# Altium footprint library FQFP (0.4mm Pitch, Square) - Corner Index.PcbLib: 26 footprints (part 3 of 3)
Each footprint in its own frame and in the unit in brackets; x right, y up, seen from the top. Pads: shape width x height; smd on the part's side, far side on the other; paste and mask are expansions set on the pad; w line width, h text height; cw(c..) or ccw(c..) is an arc to the next point about the centre after c.
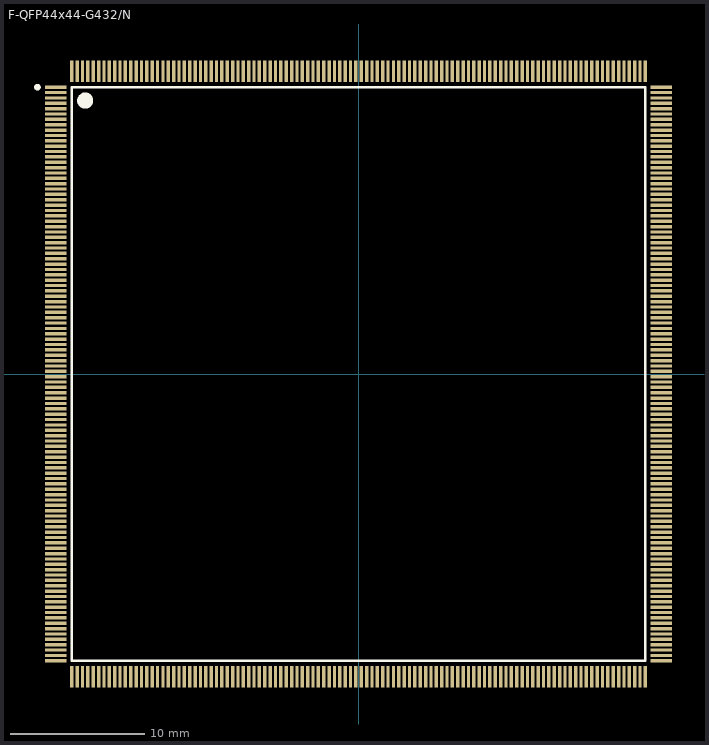
[diagram p2: the footprint, top view; thin cyan lines are the x and y axes]

## F-QFP44x44-G432/N [mm] "QFP; 432 Leads; Body 44 x 44 mm; Pitch 0.4 mm"
height 4.2
pads (432):
  rect 1.6x0.25 smd: 1(-22.6,21.4) 2(-22.6,21) 3(-22.6,20.6) 4(-22.6,20.2) 5(-22.6,19.8) 6(-22.6,19.4) 7(-22.6,19) 8(-22.6,18.6) 9(-22.6,18.2) 10(-22.6,17.8) 11(-22.6,17.4) 12(-22.6,17) 13(-22.6,16.6) 14(-22.6,16.2) 15(-22.6,15.8) 16(-22.6,15.4) 17(-22.6,15) 18(-22.6,14.6) 19(-22.6,14.2) 20(-22.6,13.8) 21(-22.6,13.4) 22(-22.6,13) 23(-22.6,12.6) 24(-22.6,12.2) 25(-22.6,11.8) 26(-22.6,11.4) 27(-22.6,11) 28(-22.6,10.6) 29(-22.6,10.2) 30(-22.6,9.8) 31(-22.6,9.4) 32(-22.6,9) 33(-22.6,8.6) 34(-22.6,8.2) 35(-22.6,7.8) 36(-22.6,7.4) 37(-22.6,7) 38(-22.6,6.6) 39(-22.6,6.2) 40(-22.6,5.8) 41(-22.6,5.4) 42(-22.6,5) 43(-22.6,4.6) 44(-22.6,4.2) 45(-22.6,3.8) 46(-22.6,3.4) 47(-22.6,3) 48(-22.6,2.6) 49(-22.6,2.2) 50(-22.6,1.8) 51(-22.6,1.4) 52(-22.6,1) 53(-22.6,0.6) 54(-22.6,0.2) 55(-22.6,-0.2) 56(-22.6,-0.6) 57(-22.6,-1) 58(-22.6,-1.4) 59(-22.6,-1.8) 60(-22.6,-2.2) 61(-22.6,-2.6) 62(-22.6,-3) 63(-22.6,-3.4) 64(-22.6,-3.8) 65(-22.6,-4.2) 66(-22.6,-4.6) 67(-22.6,-5) 68(-22.6,-5.4) 69(-22.6,-5.8) 70(-22.6,-6.2) 71(-22.6,-6.6) 72(-22.6,-7) 73(-22.6,-7.4) 74(-22.6,-7.8) 75(-22.6,-8.2) 76(-22.6,-8.6) 77(-22.6,-9) 78(-22.6,-9.4) 79(-22.6,-9.8) 80(-22.6,-10.2) 81(-22.6,-10.6) 82(-22.6,-11) 83(-22.6,-11.4) 84(-22.6,-11.8) 85(-22.6,-12.2) 86(-22.6,-12.6) 87(-22.6,-13) 88(-22.6,-13.4) 89(-22.6,-13.8) 90(-22.6,-14.2) 91(-22.6,-14.6) 92(-22.6,-15) 93(-22.6,-15.4) 94(-22.6,-15.8) 95(-22.6,-16.2) 96(-22.6,-16.6) 97(-22.6,-17) 98(-22.6,-17.4) 99(-22.6,-17.8) 100(-22.6,-18.2) 101(-22.6,-18.6) 102(-22.6,-19) 103(-22.6,-19.4) 104(-22.6,-19.8) 105(-22.6,-20.2) 106(-22.6,-20.6) 107(-22.6,-21) 108(-22.6,-21.4) 217(22.6,-21.4) 218(22.6,-21) 219(22.6,-20.6) 220(22.6,-20.2) 221(22.6,-19.8) 222(22.6,-19.4) 223(22.6,-19) 224(22.6,-18.6) 225(22.6,-18.2) 226(22.6,-17.8) 227(22.6,-17.4) 228(22.6,-17) 229(22.6,-16.6) 230(22.6,-16.2) 231(22.6,-15.8) 232(22.6,-15.4) 233(22.6,-15) 234(22.6,-14.6) 235(22.6,-14.2) 236(22.6,-13.8) 237(22.6,-13.4) 238(22.6,-13) 239(22.6,-12.6) 240(22.6,-12.2) 241(22.6,-11.8) 242(22.6,-11.4) 243(22.6,-11) 244(22.6,-10.6) 245(22.6,-10.2) 246(22.6,-9.8) 247(22.6,-9.4) 248(22.6,-9) 249(22.6,-8.6) 250(22.6,-8.2) 251(22.6,-7.8) 252(22.6,-7.4) 253(22.6,-7) 254(22.6,-6.6) 255(22.6,-6.2) 256(22.6,-5.8) 257(22.6,-5.4) 258(22.6,-5) 259(22.6,-4.6) 260(22.6,-4.2) 261(22.6,-3.8) 262(22.6,-3.4) 263(22.6,-3) 264(22.6,-2.6) 265(22.6,-2.2) 266(22.6,-1.8) 267(22.6,-1.4) 268(22.6,-1) 269(22.6,-0.6) 270(22.6,-0.2) 271(22.6,0.2) 272(22.6,0.6) 273(22.6,1) 274(22.6,1.4) 275(22.6,1.8) 276(22.6,2.2) 277(22.6,2.6) 278(22.6,3) 279(22.6,3.4) 280(22.6,3.8) 281(22.6,4.2) 282(22.6,4.6) 283(22.6,5) 284(22.6,5.4) 285(22.6,5.8) 286(22.6,6.2) 287(22.6,6.6) 288(22.6,7) 289(22.6,7.4) 290(22.6,7.8) 291(22.6,8.2) 292(22.6,8.6) 293(22.6,9) 294(22.6,9.4) 295(22.6,9.8) 296(22.6,10.2) 297(22.6,10.6) 298(22.6,11) 299(22.6,11.4) 300(22.6,11.8) 301(22.6,12.2) 302(22.6,12.6) 303(22.6,13) 304(22.6,13.4) 305(22.6,13.8) 306(22.6,14.2) 307(22.6,14.6) 308(22.6,15) 309(22.6,15.4) 310(22.6,15.8) 311(22.6,16.2) 312(22.6,16.6) 313(22.6,17) 314(22.6,17.4) 315(22.6,17.8) 316(22.6,18.2) 317(22.6,18.6) 318(22.6,19) 319(22.6,19.4) 320(22.6,19.8) 321(22.6,20.2) 322(22.6,20.6) 323(22.6,21) 324(22.6,21.4)
  rect 0.25x1.6 smd: 109(-21.4,-22.6) 110(-21,-22.6) 111(-20.6,-22.6) 112(-20.2,-22.6) 113(-19.8,-22.6) 114(-19.4,-22.6) 115(-19,-22.6) 116(-18.6,-22.6) 117(-18.2,-22.6) 118(-17.8,-22.6) 119(-17.4,-22.6) 120(-17,-22.6) 121(-16.6,-22.6) 122(-16.2,-22.6) 123(-15.8,-22.6) 124(-15.4,-22.6) 125(-15,-22.6) 126(-14.6,-22.6) 127(-14.2,-22.6) 128(-13.8,-22.6) 129(-13.4,-22.6) 130(-13,-22.6) 131(-12.6,-22.6) 132(-12.2,-22.6) 133(-11.8,-22.6) 134(-11.4,-22.6) 135(-11,-22.6) 136(-10.6,-22.6) 137(-10.2,-22.6) 138(-9.8,-22.6) 139(-9.4,-22.6) 140(-9,-22.6) 141(-8.6,-22.6) 142(-8.2,-22.6) 143(-7.8,-22.6) 144(-7.4,-22.6) 145(-7,-22.6) 146(-6.6,-22.6) 147(-6.2,-22.6) 148(-5.8,-22.6) 149(-5.4,-22.6) 150(-5,-22.6) 151(-4.6,-22.6) 152(-4.2,-22.6) 153(-3.8,-22.6) 154(-3.4,-22.6) 155(-3,-22.6) 156(-2.6,-22.6) 157(-2.2,-22.6) 158(-1.8,-22.6) 159(-1.4,-22.6) 160(-1,-22.6) 161(-0.6,-22.6) 162(-0.2,-22.6) 163(0.2,-22.6) 164(0.6,-22.6) 165(1,-22.6) 166(1.4,-22.6) 167(1.8,-22.6) 168(2.2,-22.6) 169(2.6,-22.6) 170(3,-22.6) 171(3.4,-22.6) 172(3.8,-22.6) 173(4.2,-22.6) 174(4.6,-22.6) 175(5,-22.6) 176(5.4,-22.6) 177(5.8,-22.6) 178(6.2,-22.6) 179(6.6,-22.6) 180(7,-22.6) 181(7.4,-22.6) 182(7.8,-22.6) 183(8.2,-22.6) 184(8.6,-22.6) 185(9,-22.6) 186(9.4,-22.6) 187(9.8,-22.6) 188(10.2,-22.6) 189(10.6,-22.6) 190(11,-22.6) 191(11.4,-22.6) 192(11.8,-22.6) 193(12.2,-22.6) 194(12.6,-22.6) 195(13,-22.6) 196(13.4,-22.6) 197(13.8,-22.6) 198(14.2,-22.6) 199(14.6,-22.6) 200(15,-22.6) 201(15.4,-22.6) 202(15.8,-22.6) 203(16.2,-22.6) 204(16.6,-22.6) 205(17,-22.6) 206(17.4,-22.6) 207(17.8,-22.6) 208(18.2,-22.6) 209(18.6,-22.6) 210(19,-22.6) 211(19.4,-22.6) 212(19.8,-22.6) 213(20.2,-22.6) 214(20.6,-22.6) 215(21,-22.6) 216(21.4,-22.6) 325(21.4,22.6) 326(21,22.6) 327(20.6,22.6) 328(20.2,22.6) 329(19.8,22.6) 330(19.4,22.6) 331(19,22.6) 332(18.6,22.6) 333(18.2,22.6) 334(17.8,22.6) 335(17.4,22.6) 336(17,22.6) 337(16.6,22.6) 338(16.2,22.6) 339(15.8,22.6) 340(15.4,22.6) 341(15,22.6) 342(14.6,22.6) 343(14.2,22.6) 344(13.8,22.6) 345(13.4,22.6) 346(13,22.6) 347(12.6,22.6) 348(12.2,22.6) 349(11.8,22.6) 350(11.4,22.6) 351(11,22.6) 352(10.6,22.6) 353(10.2,22.6) 354(9.8,22.6) 355(9.4,22.6) 356(9,22.6) 357(8.6,22.6) 358(8.2,22.6) 359(7.8,22.6) 360(7.4,22.6) 361(7,22.6) 362(6.6,22.6) 363(6.2,22.6) 364(5.8,22.6) 365(5.4,22.6) 366(5,22.6) 367(4.6,22.6) 368(4.2,22.6) 369(3.8,22.6) 370(3.4,22.6) 371(3,22.6) 372(2.6,22.6) 373(2.2,22.6) 374(1.8,22.6) 375(1.4,22.6) 376(1,22.6) 377(0.6,22.6) 378(0.2,22.6) 379(-0.2,22.6) 380(-0.6,22.6) 381(-1,22.6) 382(-1.4,22.6) 383(-1.8,22.6) 384(-2.2,22.6) 385(-2.6,22.6) 386(-3,22.6) 387(-3.4,22.6) 388(-3.8,22.6) 389(-4.2,22.6) 390(-4.6,22.6) 391(-5,22.6) 392(-5.4,22.6) 393(-5.8,22.6) 394(-6.2,22.6) 395(-6.6,22.6) 396(-7,22.6) 397(-7.4,22.6) 398(-7.8,22.6) 399(-8.2,22.6) 400(-8.6,22.6) 401(-9,22.6) 402(-9.4,22.6) 403(-9.8,22.6) 404(-10.2,22.6) 405(-10.6,22.6) 406(-11,22.6) 407(-11.4,22.6) 408(-11.8,22.6) 409(-12.2,22.6) 410(-12.6,22.6) 411(-13,22.6) 412(-13.4,22.6) 413(-13.8,22.6) 414(-14.2,22.6) 415(-14.6,22.6) 416(-15,22.6) 417(-15.4,22.6) 418(-15.8,22.6) 419(-16.2,22.6) 420(-16.6,22.6) 421(-17,22.6) 422(-17.4,22.6) 423(-17.8,22.6) 424(-18.2,22.6) 425(-18.6,22.6) 426(-19,22.6) 427(-19.4,22.6) 428(-19.8,22.6) 429(-20.2,22.6) 430(-20.6,22.6) 431(-21,22.6) 432(-21.4,22.6)
Top Overlay:
  circle w0.25: c-23.96,21.4 r0.125
  circle w0.6: c-20.4,20.4 r0.3
  lines w0.2: -21.4,-21.4 -21.4,21.4 21.4,21.4 21.4,-21.4 -21.4,-21.4